# EAGLE library part WEBP88LED (library Prcek)
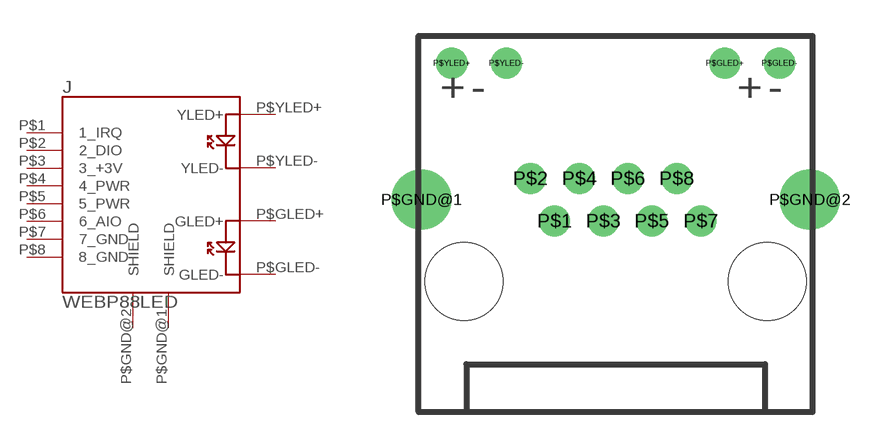
[diagram p1: symbol with the pads of WEBP88LED; footprint WEBP88LED]

Designator prefix J

## WEBP88LED  [WEBP88LED]
P$1  1_IRQ
P$2  2_DIO
P$3  3_+3V
P$4  4_PWR
P$5  5_PWR
P$6  6_AIO
P$7  7_GND
P$8  8_GND
P$GLED+  GLED+
P$GLED-  GLED-
P$GND@1  SHIELD  nc
P$GND@2  SHIELD  nc
P$YLED+  YLED+
P$YLED-  YLED-

## Footprint WEBP88LED (pad centres in mm)
drill 0.6 pad 1.3 round: P$1 -2.554,2.54; P$2 -3.566,4.32; P$3 -0.514,2.54; P$4 -1.516,4.32; P$5 1.516,2.54; P$6 0.514,4.32; P$7 3.566,2.54; P$8 2.554,4.32; P$GLED+ 4.57,9.14; P$GLED- 6.86,9.14; P$YLED+ -6.86,9.14; P$YLED- -4.57,9.14
drill 1.3 pad 2.5 round: P$GND@1 -8.125,3.43; P$GND@2 8.125,3.43
hole 3.25 at -6.35,0
hole 3.25 at 6.35,0